# Altium schematic symbol library 电感.SchLib: 23 symbols
Pins are listed as number, name and electrical type; pins without a type are passive.

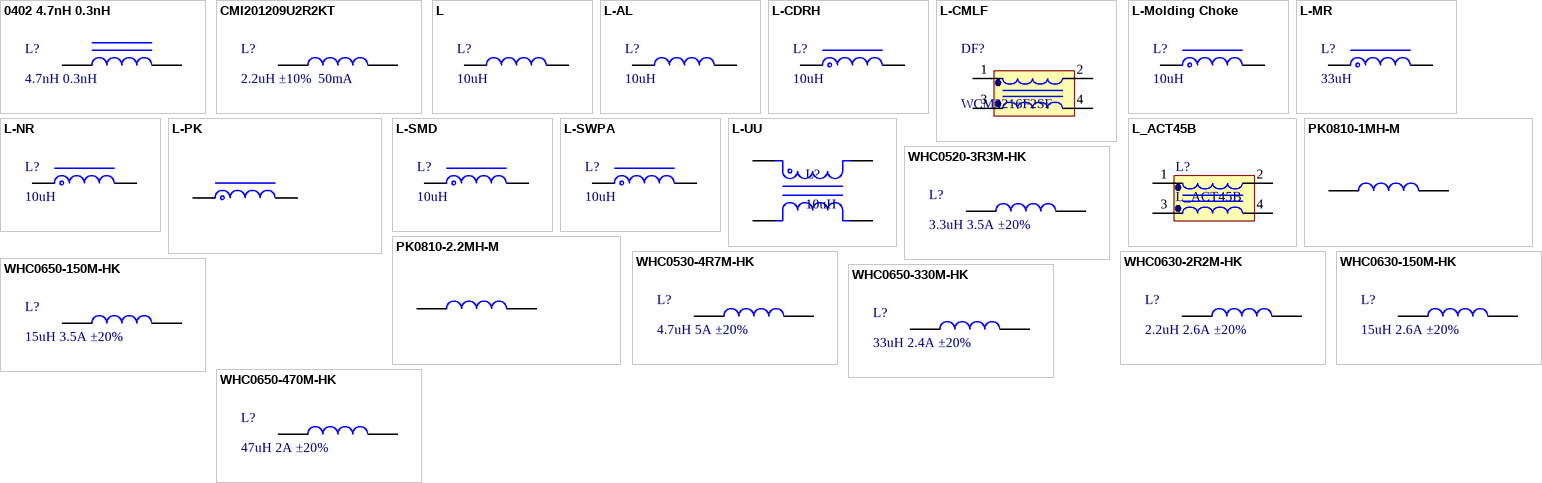
[diagram p0: symbols 0402 4.7nH 0.3nH to WHC0650-470M-HK]

## 0402 4.7nH 0.3nH
designator L?, comment 4.7nH 0.3nH
贴片电感; ComponentLink1Description: 供应商链接; ComponentLink1URL: http://www.szlcsc.com/product/details_14246.html; Package: 0402; Supplier: LC; SuppliersPartNumber: C13595
footprint 0402_L
pins: 1, 2

## CMI201209U2R2KT
designator L?, comment 2.2uH ±10%  50mA
贴片电感 2.2uH ±10%  50mA 0805; 厂家: 风华; 厂家型号: CMI201209U2R2KT; 金蝶料号: 010102010008; 工作温度: -40°C～+85°C; 插件/贴片: 贴片; 器件状态: 启用; 值: 2.2uH ±10%  50mA 0805
footprint 0805_L
pins: 1, 2

## L
designator L?, comment 10uH
贴片小功率电感; BOM名称: 小功率贴片电感; 联系下单店铺卖家 免费帮你查找封装: 联系下单店铺卖家 免费技术支持
footprint 0402_L
footprint 0603_L
footprint 0805_L
footprint 1206_L
footprint 1806_L
footprint 1812_L
footprint 0201_L
pins: 1, 2

## L-AL
designator L?, comment 10uH
色环电感; 当前库版本V2023.5.31 @淘宝卖家:黄晶宝石: 最新版本发布https://item.taobao.com/item.htm?id=566775463719; BOM名称: 色环电感
footprint AL0204 (9*2*4mm（脚距，直径，长度）)
footprint AL0204_V (3*2*4mm（脚距，直径，长度）)
footprint AL0307 (11*3*7mm（脚距，直径，长度）)
footprint AL0307_V (3.5*3*7mm（脚距，直径，长度）)
footprint AL0410 (15*4*10.5mm（脚距，直径，长度）)
footprint AL0410_V (5*4*10.5mm（脚距，直径，长度）)
footprint AL0510 (16*5*10.5mm（脚距，直径，长度）)
footprint AL0510_V (6*5*10.5mm（脚距，直径，长度）)
pins: 1, 2

## L-CDRH
designator L?, comment 10uH
CDRH功率屏蔽电感; BOM名称: 功率屏蔽电感; 当前库版本V2023.5.31 @淘宝卖家:黄晶宝石: 最新版本发布https://item.taobao.com/item.htm?id=566775463719
footprint CDRH73 (7.3*7.3*3.4mm（长宽高）)
footprint CDRH74 (7.3*7.3*4.5mm（长宽高）)
footprint CDRH124 (12*12*4.5mm（长宽高）)
footprint CDRH125 (12*12*5mm（长宽高）)
footprint CDRH127 (12*12*8mm（长宽高）)
footprint CDRH129 (12*12*9.5mm（长宽高）)
pins: 1, 2

## L-CMLF
designator DF?, comment WCM3216F2SF
0603/0805/1206/1812贴片共模电感; 当前库版本V2023.5.31 @淘宝卖家:黄晶宝石: 最新版本发布https://item.taobao.com/item.htm?id=566775463719
footprint L-CMLF-0603-L1.6-W0.8 (SMT Common Mode Line Filter, 4-leads, body 1.6x0.85mm)
footprint L-CMLF-0805-L2.0-W1.2 (SMT Common Mode Line Filter, 4-leads, body 2x1.2mm)
footprint L-CMLF-1206-L3.2-W1.6 (SMT Common Mode Line Filter, 4-leads, body 3.2x1.6mm)
footprint L-CMLF-1812-L4.5-W3.2 (SMT Common Mode Line Filter, 4-leads, body 4.5x3.2mm)
pins: 1, 2, 3, 4

## L-Molding Choke
designator L?, comment 10uH
一体成型电感; 当前库版本V2023.5.31 @淘宝卖家:黄晶宝石: 最新版本发布https://item.taobao.com/item.htm?id=566775463719; BOM名称: 一体成型电感
footprint L-SMD-0630 (一体化成型电感)
footprint L-SMD-0420 (一体化成型电感                              淘宝ID:黄晶宝石)
pins: 1, 2

## L-MR
designator L?, comment 33uH
功率磁环电感; 当前库版本V2023.5.31 @淘宝卖家:黄晶宝石: 最新版本发布https://item.taobao.com/item.htm?id=566775463719; BOM名称: 功率磁环电感
footprint LMR135 (磁环电感，外径13mm，厚度5mm)
pins: 1, 2

## L-NR
designator L?, comment 10uH
太诱-NR磁胶电感; BOM名称: NR磁胶电感; 当前库版本V2023.5.31 @淘宝卖家:黄晶宝石: 最新版本发布https://item.taobao.com/item.htm?id=566775463719
footprint NR2520 (2.5mm*2.0mm*1.0mm(长*宽*高）)
footprint NR3010 (3.0mm*3.0mm*1.0mm(长*宽*高）)
footprint NR3012 (3.0mm*3.0mm*1.2mm(长*宽*高）)
footprint NR3015 (3.0mm*3.0mm*1.5mm(长*宽*高）)
footprint NR4010 (4.0mm*4.0mm*1.0mm(长*宽*高）)
footprint NR4018 (4.0mm*4.0mm*1.8mm(长*宽*高）)
footprint NR4020 (4.0mm*4.0mm*2.0mm(长*宽*高）)
footprint NR4026 (4.0mm*4.0mm*2.6mm(长*宽*高）)
footprint NR4030 (4.0mm*4.0mm*3.0mm(长*宽*高）)
footprint NR5012 (5.0mm*5.0mm*1.2mm(长*宽*高）)
footprint NR5020 (5.0mm*5.0mm*2.0mm(长*宽*高）)
footprint NR5040 (5.0mm*5.0mm*4.0mm(长*宽*高）)
footprint NR6020 (6.0mm*6.0mm*2.0mm(长*宽*高）)
footprint NR6028 (6.0mm*6.0mm*2.8mm(长*宽*高）)
footprint NR6045 (6.0mm*6.0mm*4.5mm(长*宽*高）)
footprint NR8040 (8.0mm*8.0mm*4.0mm(长*宽*高）)
pins: 1, 2

## L-PK
designator L?, comment 2.2MH
工字电感; 插件/贴片: 插件; 器件状态: 在用
footprint PK0810 (5*9*12mm(脚距，直径，高）)
footprint PK0406 (2*5*8mm(脚距，直径，高）)
footprint PK0608 (2.5*7*10mm(脚距，直径，高）)
footprint PK1012 (6*11*14mm(脚距，直径，高）)
footprint PK1415 (7.5*15*17mm(脚距，直径，高）)
footprint PK1618 (12.5*17*20mm(脚距，直径，高）)
footprint PK1818 (15*19*20mm(脚距，直径，高）)
pins: 1, 2

## L-SMD
designator L?, comment 10uH
CD系列贴片线绕功率电感; BOM名称: 功率电感; 当前库版本V2023.5.31 @淘宝卖家:黄晶宝石: 最新版本发布https://item.taobao.com/item.htm?id=566775463719
footprint CD31 (3.5*3*1mm（长宽高）)
footprint CD32 (3.5*3*2mm（长宽高）)
footprint CD42 (4.5*4*2mm（长宽高）)
footprint CD43 (4.5*4*3.2mm（长宽高）)
footprint CD52 (5.8*5.2*3mm（长宽高）)
footprint CD53 (5.8*5.2*3.5mm（长宽高）)
footprint CD54 (5.8*5.2*4.5mm（长宽高）)
footprint CD73 (7.8*7*3.5mm（长宽高）)
footprint CD75 (7.8*7*5mm（长宽高）)
footprint CD104 (10*9*4mm（长宽高）)
footprint CD105 (10*9*5.4mm（长宽高）)
footprint CD106 (10*9*6.5mm（长宽高）)
pins: 1, 2

## L-SWPA
designator L?, comment 10uH
顺络_SWPA贴片屏蔽电感; BOM名称: 功率屏蔽电感; 当前库版本V2023.5.31 @淘宝卖家:黄晶宝石: 最新版本发布https://item.taobao.com/item.htm?id=566775463719
footprint SWPA3010 (轮廓3mm*3mm ，焊盘间距1.5mm)
footprint SWPA3012 (轮廓3mm*3mm ，焊盘间距1.5mm)
footprint SWPA3015 (轮廓3mm*3mm ，焊盘间距1.5mm)
footprint SWPA4010 (轮廓4mm*4mm ，焊盘间距1.9mm)
footprint SWPA4012 (轮廓4mm*4mm ，焊盘间距1.9mm)
footprint SWPA4020 (轮廓4mm*4mm ，焊盘间距1.9mm)
footprint SWPA4018 (轮廓4mm*4mm ，焊盘间距1.9mm)
footprint SWPA4026 (轮廓4mm*4mm ，焊盘间距1.9mm)
footprint SWPA4030 (轮廓4mm*4mm ，焊盘间距1.9mm        淘宝ID:黄晶宝石)
footprint SWPA5012 (轮廓5mm*5mm ，焊盘间距2.3mm)
footprint SWPA5020 (轮廓5mm*5mm ，焊盘间距2.3mm)
footprint SWPA5040 (轮廓5mm*5mm ，焊盘间距2.3mm)
footprint SWPA6020 (轮廓6mm*6mm ，焊盘间距2.8mm)
footprint SWPA6028 (轮廓6mm*6mm ，焊盘间距2.8mm)
footprint SWPA6040 (轮廓6mm*6mm ，焊盘间距2.8mm)
footprint SWPA6045 (轮廓6mm*6mm ，焊盘间距2.8mm)
footprint SWPA6045 (轮廓6mm*6mm ，焊盘间距2.8mm)
footprint SWPA8040 (轮廓8mm*8mm ，焊盘间距3.8mm)
footprint SWPA8050 (轮廓8mm*8mm ，焊盘间距3.8mm)
footprint SWPA8065 (轮廓8mm*8mm ，焊盘间距3.8mm)
footprint SWPA252010 (轮廓2.5mm*2mm ，焊盘间距0.8mm)
footprint SWPA252012 (轮廓2.5mm*2mm ，焊盘间距0.8mm)
pins: 1, 2

## L-UU
designator L?, comment 10uH
UU型共模电感; BOM名称: 共模电感; 当前库版本V2023.5.31 @淘宝卖家:黄晶宝石: 最新版本发布https://item.taobao.com/item.htm?id=566775463719
footprint UU9.8 (17*12*17mm(长宽高）)
footprint UU10.5 (18*16*20mm(长宽高）)
footprint UU16 (22*17.5*23mm(长宽高）)
footprint CMC_12x6x4 (直径：13.2mm，厚：7.2mm，脚距5*6.6mm)
pins: 1, 2, 3, 4

## L_ACT45B
designator L?
共模电感; 当前库版本V2023.5.31 @淘宝卖家:黄晶宝石: 最新版本发布https://item.taobao.com/item.htm?id=566775463719; BOM名称: 共模电感
footprint L-TDK-ACT45B
pins: 1, 2, 3, 4

## PK0810-1MH-M
designator L?, comment 1MH
插件电感 1MH 0.36A ±20%; 厂家型号: PK0810-1MH-M; 金蝶料号: 010102030006; 插件/贴片: 插件; 值: 2.2MH 0.6A ±20%; 器件状态: 在用
footprint PK0810 (5*9*12mm(脚距，直径，高）)
pins: 1, 2

## PK0810-2.2MH-M
designator L?, comment 2.2MH
插件电感 2.2MH 0.6A ±20%; 厂家: 感至佳; 厂家型号: PK0810-2.2MH-M; 金蝶料号: 010102030006; 插件/贴片: 插件; 器件状态: 在用; 值: 2.2MH 0.6A ±20%
footprint PK0810 (5*9*12mm(脚距，直径，高）)
pins: 1, 2

## WHC0520-3R3M-HK
designator L?, comment 3.3uH 3.5A ±20%
贴片电感 3.3uH 3.5A ±20%; 厂家: 感至嘉; 厂家型号: WHC0520-3R3M-HK; 金蝶料号: 010102010013; 工作温度: -40°C～+125°C; 插件/贴片: 贴片; 器件状态: 启用; 值: 3.3uH 3.5A ±20%
footprint IND_SMD_0520
pins: 1, 2

## WHC0530-4R7M-HK
designator L?, comment 4.7uH 5A ±20%
贴片电感 4.7uH 5A ±20%; 厂家: 感至嘉; 厂家型号: WHC0530-4R7M-HK; 金蝶料号: 010102010012; 工作温度: -40°C～+125°C; 插件/贴片: 贴片; 器件状态: 启用; 值: 4.7uH 5A ±20%
footprint IND_SMD_0530 (IND_0530)
pins: 1, 2

## WHC0630-2R2M-HK
designator L?, comment 2.2uH 2.6A ±20%
贴片电感 2.2uH 2.6A ±20%; 厂家: 感至嘉; 厂家型号: WHC0650-2R2M-HK; 金蝶料号: 010102010011; 工作温度: -40°C～+125°C; 插件/贴片: 贴片; 值: 2.2uH 8A ±20%; 器件状态: 启用
footprint IND_SMD_0630 (贴片电感74x66x30)
pins: 1, 2

## WHC0630-150M-HK
designator L?, comment 15uH 2.6A ±20%
贴片电感 15uH 2.6A ±20%; 厂家: 感至嘉; 厂家型号: WHC0650-150M-HK; 金蝶料号: 010102010010; 工作温度: -40°C～+125°C; 插件/贴片: 贴片; 器件状态: 启用; 值: 15uH 2.6A ±20%
footprint IND_SMD_0630 (贴片电感74x66x30)
pins: 1, 2

## WHC0650-150M-HK
designator L?, comment 15uH 3.5A ±20%
贴片电感 15uH 3.5A ±20%; 厂家: 感至嘉; 厂家型号: WHC0650-150M-HK; 金蝶料号: 010102010005; 工作温度: -40°C～+125°C; 插件/贴片: 贴片; 器件状态: 启用; 值: 15uH 3.5A ±20%
footprint IND_SMD_0650 (贴片电感75x66x50)
pins: 1, 2

## WHC0650-330M-HK
designator L?, comment 33uH 2.4A ±20%
贴片电感 33uH 2.4A ±20%; 厂家: 感至嘉; 厂家型号: WHC0650-330M-HK; 金蝶料号: 010102010009; 工作温度: -40°C～+125°C; 插件/贴片: 贴片; 器件状态: 启用; 值: 33uH 2.4A ±20%
footprint IND_SMD_0650 (贴片电感75x66x50)
pins: 1, 2

## WHC0650-470M-HK
designator L?, comment 47uH 2A ±20%
贴片电感 47uH 2A ±20%; 厂家: 感至嘉; 厂家型号: WHC0650-470M-HK; 金蝶料号: 010102010002; 工作温度: -40°C～+125°C; 插件/贴片: 贴片; 器件状态: 启用; 值: 47uH 2A ±20%
footprint IND_SMD_0650 (贴片电感75x66x50)
pins: 1, 2